# Altium integrated library ST Converter Parallel to Serial.IntLib: 1 symbol
Pins are listed as number, name and electrical type; pins without a type are passive.

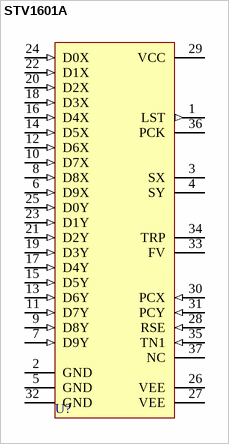
[diagram p0: symbol STV1601A]

## STV1601A
designator U?
Serial Interface Transmission Encoder; PackageDocument: 1994; Published: 24-Aug-2001; LatestRevisionDate: 6-Jun-2005; LatestRevisionNote: Stylized 3D Model Added.; DatasheetDocument: Nov-1992; PackageReference: PGA37; Publisher: Altium Limited; ComponentLink1Description: Manufacturer Link; ComponentLink1URL: http://www.st.com/
footprint PGA37 (PGA; 37 Leads; Body 25.5 x 25.5 mm; Plain Grid)
3D model STV1601A-PGA37 (PGA; 37 Leads; Body 25.5 x 25.5 mm; Plain Grid)
pins: 1 LST (out), 2 GND (power), 3 SX (oe), 4 SY (oe), 5 GND (power), 6 D9X (in), 7 D9Y (in), 8 D8X (in), 9 D8Y (in), 10 D7X (in), 11 D7Y (in), 12 D6X (in), 13 D6Y (in), 14 D5X (in), 15 D5Y (in), 16 D4X (in), 17 D4Y (in), 18 D3X (in), 19 D3Y (in), 20 D2X (in), 21 D2Y (in), 22 D1X (in), 23 D1Y (in), 24 D0X (in), 25 D0Y (in), 26 VEE (power), 27 VEE (power), 28 RSE (in), 29 VCC (power), 30 PCX (in), 31 PCY (in), 32 GND (power), 33 FV, 34 TRP, 35 TN1 (in), 36 PCK (oe), 37 NC